# Altium schematic symbol library XTAL.SchLib: 1 symbol
Pins are listed as number, name and electrical type; pins without a type are passive.

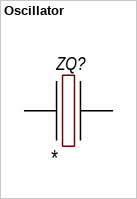
[diagram p0: symbol Oscillator]

## Oscillator
designator ZQ?
Manufacturer: *; ComponentKind: *; HelpURL: *; Model: *; Value: *
footprint OSC: 2016
footprint OSC: 2520
footprint OSC: 3215
footprint OSC: 3225
footprint OSC: 5032
footprint OSC: 5032_6
footprint OSC: 5070
footprint OSC: ABM7
footprint OSC: CVHD-950-122.880
footprint OSC: HC49S
footprint OSC: HC49SM
footprint OSC: KX-327L (Quartz Crystal KX – 327L)
footprint OSC: KX–9A (Quartz Crystal  KX–9A)
pins: 1, 3